# Altium footprint library MBR0520L.PcbLib: 1 footprints
Each footprint in its own frame and in the unit in brackets; x right, y up, seen from the top. Pads: shape width x height; smd on the part's side, far side on the other; paste and mask are expansions set on the pad; w line width, h text height; cw(c..) or ccw(c..) is an arc to the next point about the centre after c.
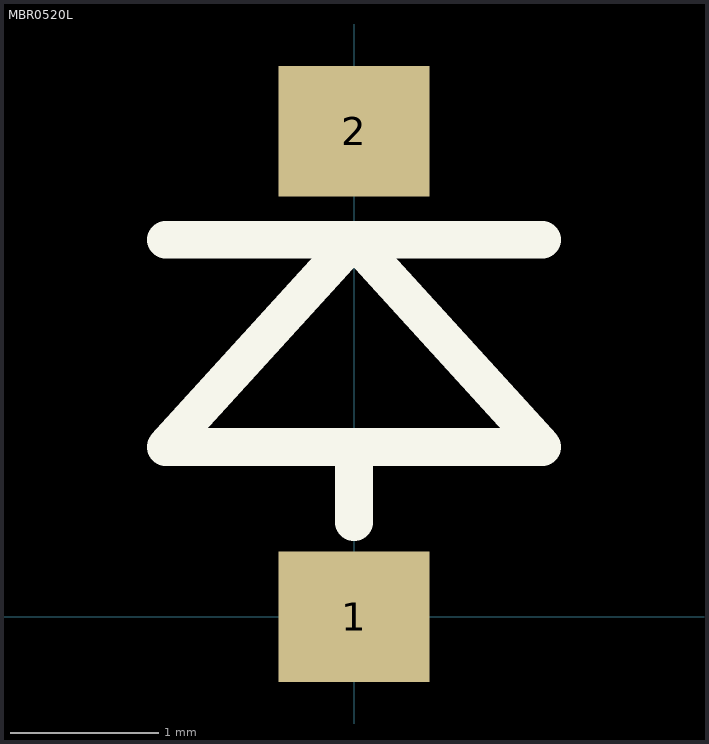
[diagram p0: the footprint, top view; thin cyan lines are the x and y axes]

## MBR0520L [mm] "schottky diode SOD123"
height 1.28
pads (2):
  rect 1.02x0.88 smd: 1(0,0) 2(0,3.27)
Top Overlay:
  lines w0.254: 0,0.635 0,1.143 ; 1.27,2.54 -1.27,2.54 0,2.54 ; 0,2.54 -1.27,1.143 1.27,1.143 0,2.54
3D body: height 1.28, standoff 0, extent -0.612,-0.542 0.612,3.812